# Altium footprint library Intercom Gen2 Main PCB.PcbLib: 115 footprints (part 1 of 8)
Each footprint in its own frame and in the unit in brackets; x right, y up, seen from the top. Pads: shape width x height; smd on the part's side, far side on the other; paste and mask are expansions set on the pad; w line width, h text height; cw(c..) or ccw(c..) is an arc to the next point about the centre after c.
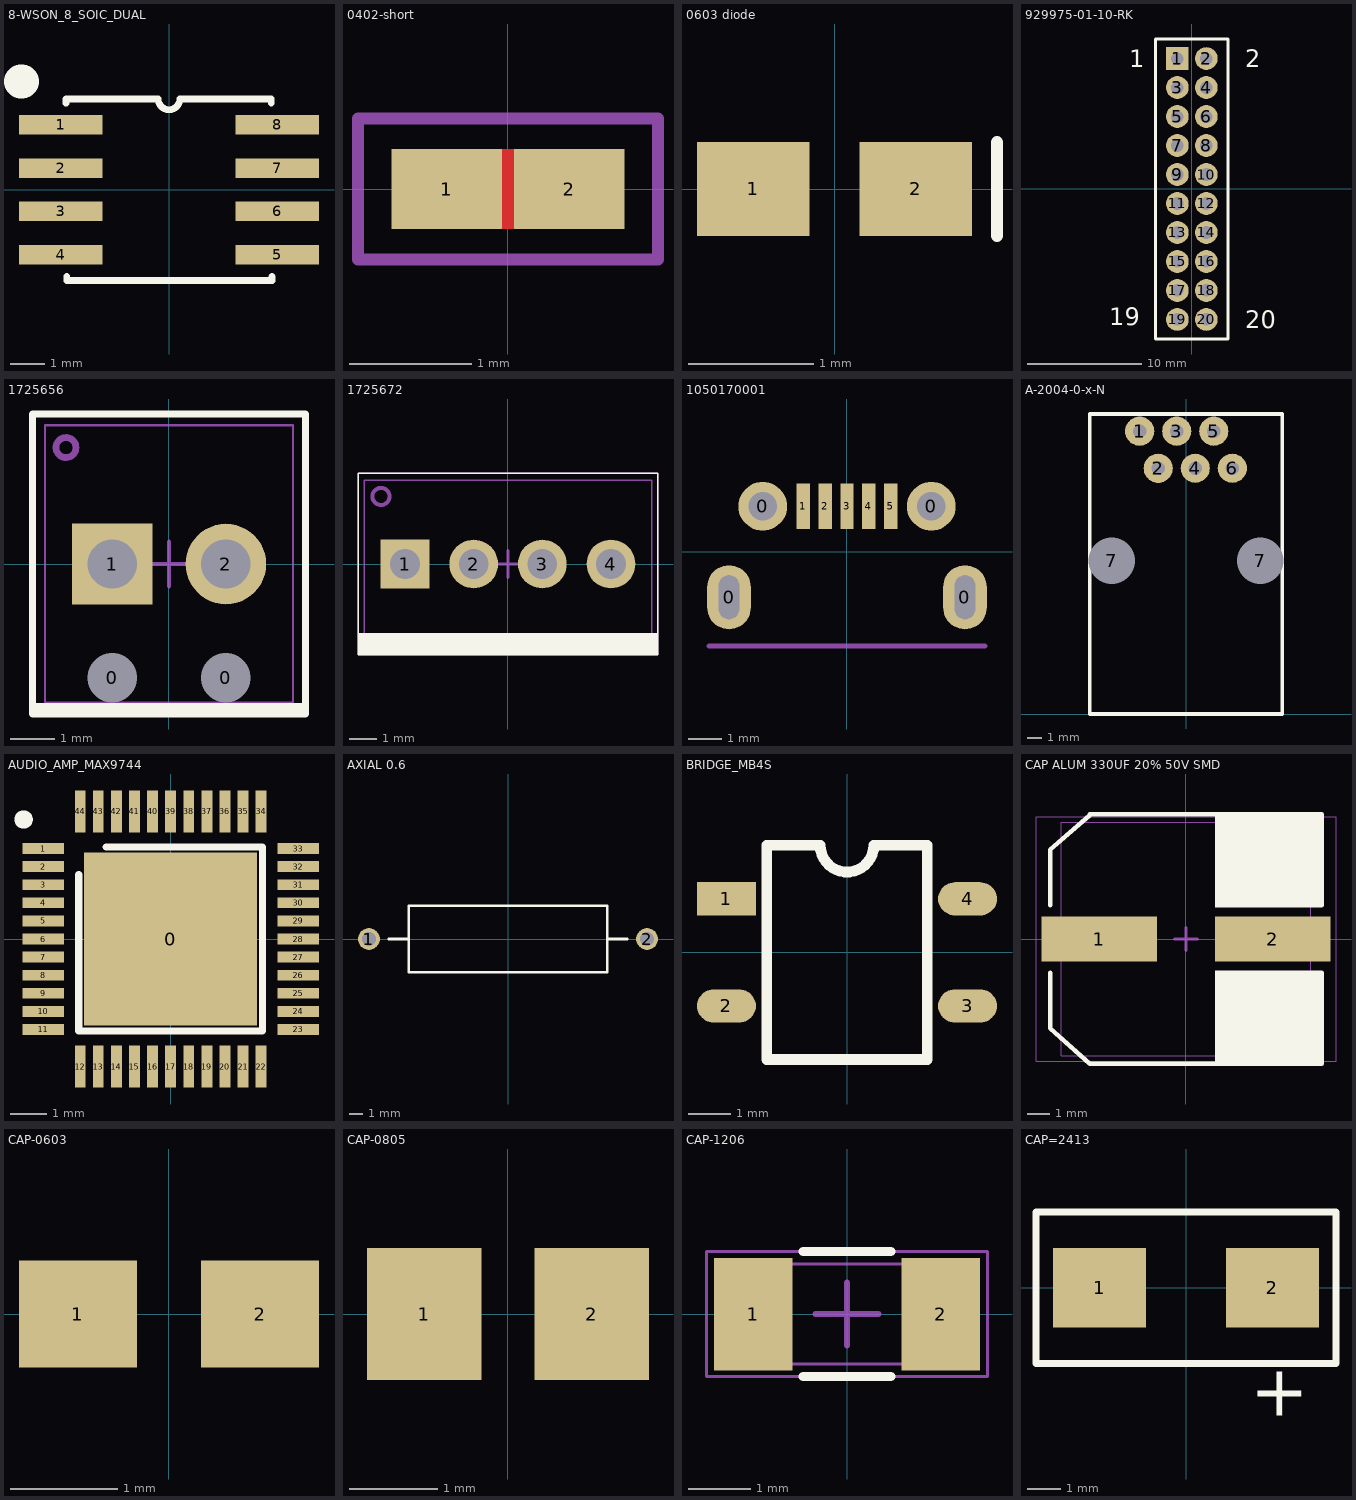
[diagram p0: the footprints below, top view; thin cyan lines are the x and y axes]

## 8-WSON_8_SOIC_DUAL [mm]
height 2.54
pads (8):
  rect 2.45x0.57 smd: 1(-3.175,1.905) 2(-3.175,0.635) 3(-3.175,-0.635) 4(-3.175,-1.905) 5(3.175,-1.905) 6(3.175,-0.635) 7(3.175,0.635) 8(3.175,1.905)
Top Overlay:
  lines w0.2: -3.02,2.54 -3.02,2.667 ; -3,-2.667 -3,-2.54 ; -3,-2.665 3,-2.665 ; -3,2.665 -0.318,2.665 ccw(c0,2.665) 0.318,2.665 3,2.665 ; 3,2.54 3,2.667 ; 3.02,-2.667 3.02,-2.54
  lines w1: -4.346,3.175 -4.318,3.175
3D body "User Library-WSON-8.STEP": height 0.81, standoff 0.01, extent -3.175,-2.5 2.825,2.5

## 0402-short [mm]
height 0.35
pads (2):
  rect 0.9x0.65 smd: 1(-0.5,0) 2(0.5,0)
Top Layer:
  rectangle: -0.175,-0.325 0.125,0.325
Mechanical 13:
  lines w0.1: -0.55,-0.275 0.55,-0.275 0.55,0.275 -0.55,0.275 -0.55,-0.275
Mechanical 15:
  lines w0.1: -0.275,0 0.275,0 ; 0,-0.275 0,0.275 ; -1.225,-0.575 1.225,-0.575 1.225,0.575 -1.225,0.575 -1.225,-0.575
3D body: height 0.35, standoff 0, extent -0.55,-0.275 0.55,0.275

## 0603 diode [mm]
pads (2):
  rect 0.9x0.75 smd paste-0.05: 1(-0.65,0) 2(0.65,0)
Top Overlay:
  lines w0.1: 1.3,-0.375 1.3,0.375
3D body: height 0.65, standoff 0, extent -0.65,-0.35 0.65,0.4
3D body: height 0.13, standoff 0, extent -0.875,-0.35 0.875,0.35

## 929975-01-10-RK [mm] "20 Position Receptacle Connector  Through Hole"
pads (20):
  rect 2x2 hole 1.1: 1(-1.27,11.43)
  round 2 hole 1.1: 2(1.27,11.43) 3(-1.27,8.89) 4(1.27,8.89) 5(-1.27,6.35) 6(1.27,6.35) 7(-1.27,3.81) 8(1.27,3.81) 9(-1.27,1.27) 10(1.27,1.27) 11(-1.27,-1.27) 12(1.27,-1.27) 13(-1.27,-3.81) 14(1.27,-3.81) 15(-1.27,-6.35) 16(1.27,-6.35) 17(-1.27,-8.89) 18(1.27,-8.89) 19(-1.27,-11.43) 20(1.27,-11.43)
Top Overlay:
  lines w0.254: -3.175,-13.145 -3.175,13.145 3.175,13.145 3.175,-13.145 -3.175,-13.145
  text "19" at -7.248,-11.934 h1.52
  text "20" at 4.702,-12.188 h1.52
  text "1" at -5.466,10.672 h1.52
  text "2" at 4.702,10.672 h1.52
3D body "929XXX-01-10-XX.stp": height 8.25, standoff -3.17, extent -2.54,-12.7 2.54,12.7

## 1725656 [mm] "2 Position Wire to Board Terminal Block Horizontal with Board 0.100\" (2.54mm) Through Hole"
height 8.5
pads (4):
  round 1 hole 1.1 unplated: 0(-1.27,-2.54) 0(1.27,-2.54)
  rect 1.8x1.8 hole 1.1: 1(-1.27,0)
  round 1.8 hole 1.1: 2(1.27,0)
Top Overlay:
  rectangle: -3.05,-3.35 3.05,-3.108
  lines w0.15: -3.05,-3.35 3.05,-3.35 3.05,3.35 -3.05,3.35 -3.05,-3.35
Top Assembly:
  circle w0.15: c-2.3,2.6 r0.224
  lines w0.05: -2.77,-3.1 2.77,-3.1 2.77,3.1 -2.77,3.1 -2.77,-3.1
  text ".designator" at -4.898,1.367 h1
Top Courtyard:
  lines w0.05: -3.05,-3.35 3.05,-3.35 3.05,3.35 -3.05,3.35 -3.05,-3.35
  lines w0.1: -0.5,0 0.5,0 ; 0,-0.5 0,0.5
3D body "pxc_1725656_05_MPT-0-5-2-2-54_3D.stp": height 8.5, standoff -3.5, extent -2.77,-3.1 2.77,3.1

## 1725672 [mm] "4 Position Wire to Board Terminal Block Horizontal with Board 0.100\" (2.54mm) Through Hole"
height 8.5
pads (4):
  rect 1.8x1.8 hole 1.1: 1(-3.81,0)
  round 1.8 hole 1.1: 2(-1.27,0) 3(1.27,0) 4(3.81,0)
Top Overlay:
  rectangle: -5.55,-3.35 5.55,-2.555
  lines w0.05: -5.55,-3.35 5.55,-3.35 5.55,3.35 -5.55,3.35 -5.55,-3.35
Top Assembly:
  circle w0.15: c-4.7,2.5 r0.316
  lines w0.05: -5.31,-3.1 5.31,-3.1 5.31,3.1 -5.31,3.1 -5.31,-3.1
  text ".Designator" at -4.998,-0.333 h1
Top Courtyard:
  lines w0.05: -5.55,-3.35 5.55,-3.35 5.55,3.35 -5.55,3.35 -5.55,-3.35
  lines w0.1: -0.5,0 0.5,0 ; 0,-0.5 0,0.5
3D body "pxc_1725672_05_MPT-0-5-4-2-54_3D.stp": height 8.5, standoff -3.5, extent -5.31,-3.1 5.31,3.1

## 1050170001 [mm] "USB microB 5-Position, SMD, Right Angle"
pads (9):
  oval 1.3x1.9 hole 0.6 slot 1.3 at 90 deg: 0(-3.5,-1.35) 0(3.5,-1.35)
  round 1.45 hole 0.85: 0(-2.5,1.35) 0(2.5,1.35)
  rect 0.4x1.35 smd paste-0.05: 1(-1.3,1.35) 2(-0.65,1.35) 3(0,1.35) 4(0.65,1.35) 5(1.3,1.35)
Mechanical 13:
  lines w0.15: -4.1,-2.8 4.1,-2.8
  text "PCB EDGE" at -2.259,-2.555 h0.6
3D body "1050170001.SLDPRT": height 2.7, standoff -0.6, extent -4.1,-3.9 4.1,1.5

## A-2004-0-x-N [mm] "RJ11"
height 15
pads (8):
  round 2 hole 0.9: 1(-3.175,19.39) 2(-1.905,16.847) 3(-0.635,19.39) 4(0.635,16.85) 5(1.905,19.39) 6(3.175,16.85)
  round 2 hole 3.2 unplated: 7(-5.08,10.5) 7(5.08,10.5)
Top Overlay:
  lines w0.254: -6.605,0 6.605,0 6.605,20.57 -6.605,20.57 -6.605,0
3D body "A-2004-1-4-LP-N-R--3DModel-STEP-56544.STEP": height 11.71, standoff -3.24, extent -6.6,2.575 6.6,20.575

## AUDIO_AMP_MAX9744 [mm]
height 2.54
pads (45):
  rect 4.78x4.78 smd: 0(0,0)
  rect 1.15x0.3 smd: 1(-3.525,2.5) 2(-3.525,2) 3(-3.525,1.5) 4(-3.525,1) 5(-3.525,0.5) 6(-3.525,0) 7(-3.525,-0.5) 8(-3.525,-1) 9(-3.525,-1.5) 10(-3.525,-2) 11(-3.525,-2.5) 23(3.525,-2.5) 24(3.525,-2) 25(3.525,-1.5) 26(3.525,-1) 27(3.525,-0.5) 28(3.525,0) 29(3.525,0.5) 30(3.525,1) 31(3.525,1.5) 32(3.525,2) 33(3.525,2.5)
  rect 0.3x1.15 smd: 12(-2.5,-3.525) 13(-2,-3.525) 14(-1.5,-3.525) 15(-1,-3.525) 16(-0.5,-3.525) 17(0,-3.525) 18(0.5,-3.525) 19(1,-3.525) 20(1.5,-3.525) 21(2,-3.525) 22(2.5,-3.525) 34(2.5,3.525) 35(2,3.525) 36(1.5,3.525) 37(1,3.525) 38(0.5,3.525) 39(0,3.525) 40(-0.5,3.525) 41(-1,3.525) 42(-1.5,3.525) 43(-2,3.525) 44(-2.5,3.525)
Top Overlay:
  circle w0.254: c-4.064,3.302 r0.127
  lines w0.2: -2.54,1.778 -2.54,-2.54 2.54,-2.54 2.54,2.54 -1.778,2.54
3D body "User Library-QFN 44.step": height 0.86, standoff 0.01, extent -3.501,-3.501 3.501,3.501

## AXIAL 0.6 [mm]
pads (2):
  round 1.65 hole 1.05: 1(-10.5,0) 2(10.5,0)
Top Overlay:
  lines w0.2: -9,0 -7.5,0 ; 7.5,0 9,0 ; -7.5,-2.5 7.5,-2.5 7.5,2.5 -7.5,2.5 -7.5,-2.5
3D body: height 5.5, standoff 0, extent -7.5,-2.75 7.5,2.75

## BRIDGE_MB4S [mil] "BRIDGE_MB4S"
height 100
pads (4):
  rect 55x31 smd: 1(-112.5,50)
  oval 55x31 smd: 2(-112.5,-50) 3(112.5,-50) 4(112.5,50)
Top Overlay:
  lines w10: -75,-100 -75,100 -25,100 ccw(c0,100) 25,100 75,100 75,-100 -75,-100
3D body "MB4S.STEP": height 114.17, standoff 0, extent -131.89,-93.01 131.89,93.01

## CAP ALUM 330UF 20% 50V SMD [mm]
pads (2):
  rect 5.1x2 smd: 1(-3.825,0) 2(3.825,0)
Top Overlay:
  rectangle: 1.275,-5.5 6,-1.4
  rectangle: 1.275,1.4 6,5.5
  lines w0.2: -6,-1.5 -6,-3.937 -4.25,-5.5 6,-5.5 6,-1.5 ; -6,1.5 -6,3.944 -4.25,5.475 ; -4.25,5.5 6,5.5 6,1.5
Top Assembly:
  circle w0.1: c-3.825,0 r0.575
  lines w0.05: -5.5,-5.15 5.5,-5.15 5.5,5.15 -5.5,5.15 -5.5,-5.15
  text ".DESIGNATOR" at -1.675,-2.82 h0.51
Top Courtyard:
  lines w0.05: -6.625,-5.4 6.625,-5.4 6.625,5.4 -6.625,5.4 -6.625,-5.4
  lines w0.15: -0.5,0 0.5,0 ; 0,-0.5 0,0.5
3D body "CAP_330uF_RADIAL_SMD.step": height 10.51, standoff 0.01, extent -5.5,-5.15 5.5,5.15

## CAP-0603 [mm]
height 2.54
pads (2):
  rect 1.1x1 smd: 1(-0.85,0) 2(0.85,0)
3D body "SW3DPS-CAPACITOR 0603-DEFAULT.STEP": height 0.88, standoff 0.02, extent -0.8,-0.43 0.8,0.43

## CAP-0805 [mm]
height 2.54
pads (2):
  rect 1.3x1.5 smd: 1(-0.95,0) 2(0.95,0)
3D body "SW3DPS-CAPACITOR 0805-DEFAULT.STEP": height 0.78, standoff 0.02, extent -1,-0.655 1,0.655

## CAP-1206 [mm]
height 2.54
pads (2):
  rect 1.25x1.8 smd: 1(-1.5,0) 2(1.5,0)
Top Overlay:
  lines w0.15: -0.7,-1 0.7,-1 ; -0.7,1 0.7,1
Top Assembly:
  lines w0.05: -1.6,-0.8 1.6,-0.8 1.6,0.8 -1.6,0.8 -1.6,-0.8
  text ".designator" at -2.499,-0.167 h0.5
Top Courtyard:
  lines w0.05: -2.25,-1 2.25,-1 2.25,1 -2.25,1 -2.25,-1
  lines w0.1: -0.5,0 0.5,0 ; 0,-0.5 0,0.5
3D body "SW3DPS-CAPACITOR 1206-DEFAULT.STEP": height 1.68, standoff 0.02, extent -1.6,-0.78 1.6,0.78

## CAP=2413 [mm]
height 2.54
pads (2):
  rect 2.77x2.35 smd: 1(-2.57,0) 2(2.57,0)
Top Overlay:
  lines w0.2: -4.46,-2.25 4.46,-2.25 4.46,2.25 -4.46,2.25 -4.46,-2.25
  text "+" at 1.905,-3.81 h1.52